# Altium footprint library SSR.PcbLib: 7 footprints
Each footprint in its own frame and in the unit in brackets; x right, y up, seen from the top. Pads: shape width x height; smd on the part's side, far side on the other; paste and mask are expansions set on the pad; w line width, h text height; cw(c..) or ccw(c..) is an arc to the next point about the centre after c.
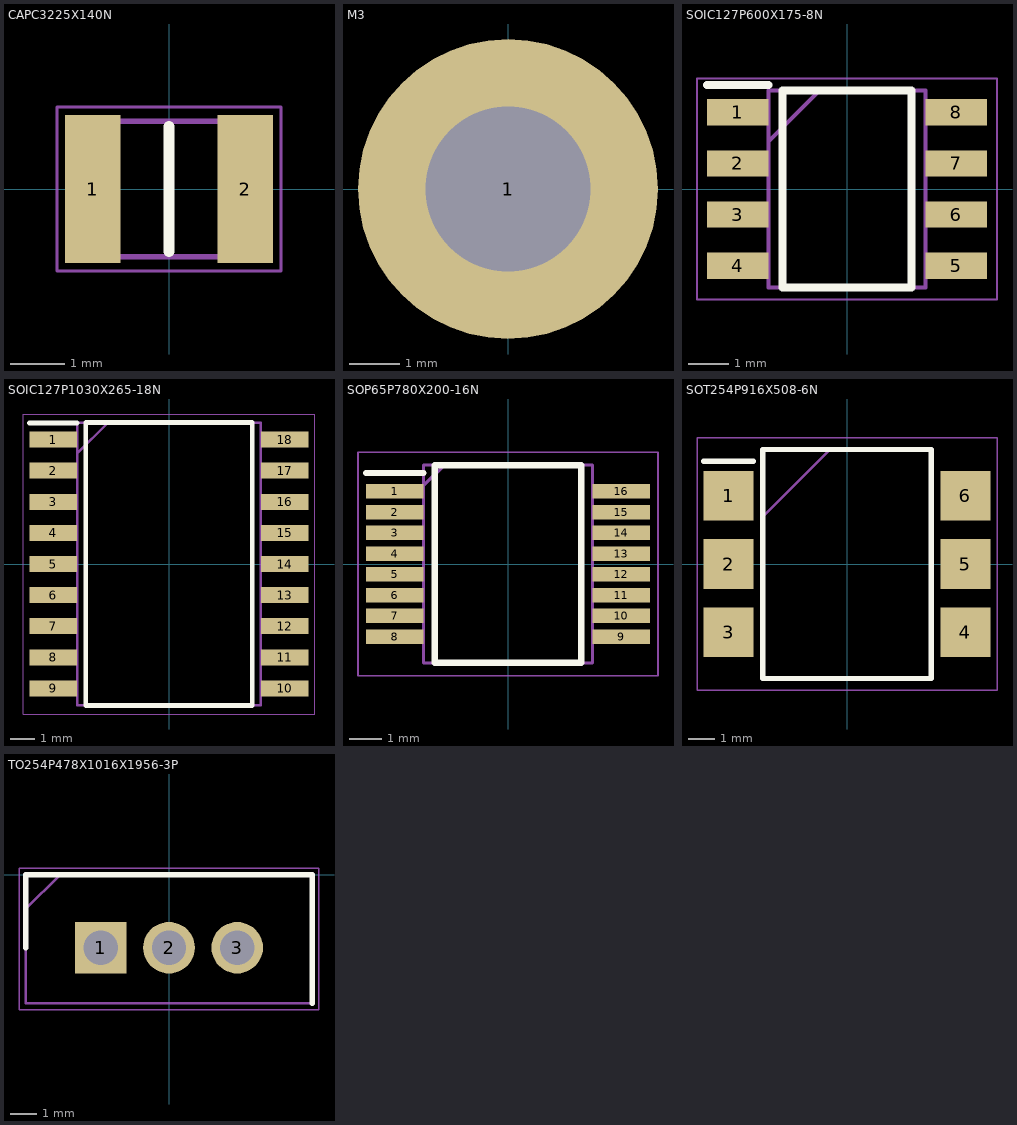
[diagram p0: the footprints below, top view; thin cyan lines are the x and y axes]

## CAPC3225X140N [mm]
pads (2):
  rect 1.02x2.72 smd: 1(-1.4,0) 2(1.4,0)
Top Overlay:
  lines w0.2: 0,-1.15 0,1.15
Mechanical 13:
  lines w0.1: -1.6,-1.25 1.6,-1.25 1.6,1.25 -1.6,1.25 -1.6,-1.25
Mechanical 15:
  lines w0.05: -2.06,-1.51 2.06,-1.51 2.06,1.51 -2.06,1.51 -2.06,-1.51
3D body "C1210C103JBTACAUTO.stp": height 1.4, standoff 0, extent -1.6,-1.25 1.6,1.25

## M3 [mm]
pads (1):
  round 6 hole 3.3 mask+2: 1(0,0)

## SOIC127P600X175-8N [mm]
pads (8):
  rect 1.525x0.65 smd: 1(-2.712,1.905) 2(-2.712,0.635) 3(-2.712,-0.635) 4(-2.712,-1.905) 5(2.712,-1.905) 6(2.712,-0.635) 7(2.712,0.635) 8(2.712,1.905)
Top Overlay:
  lines w0.2: -3.475,2.58 -1.95,2.58 ; -1.6,-2.45 -1.6,2.45 1.6,2.45 1.6,-2.45 -1.6,-2.45
Mechanical 13:
  lines w0.1: -1.95,1.18 -0.68,2.45 ; -1.95,-2.45 -1.95,2.45 1.95,2.45 1.95,-2.45 -1.95,-2.45
Mechanical 15:
  lines w0.05: -3.725,-2.75 -3.725,2.75 3.725,2.75 3.725,-2.75 -3.725,-2.75
3D body "NE555DR.stp": height 1.75, standoff 0, extent -3,-2.45 3,2.45

## SOIC127P1030X265-18N [mm]
pads (18):
  rect 1.95x0.65 smd: 1(-4.725,5.08) 2(-4.725,3.81) 3(-4.725,2.54) 4(-4.725,1.27) 5(-4.725,0) 6(-4.725,-1.27) 7(-4.725,-2.54) 8(-4.725,-3.81) 9(-4.725,-5.08) 10(4.725,-5.08) 11(4.725,-3.81) 12(4.725,-2.54) 13(4.725,-1.27) 14(4.725,0) 15(4.725,1.27) 16(4.725,2.54) 17(4.725,3.81) 18(4.725,5.08)
Top Overlay:
  lines w0.2: -5.7,5.755 -3.75,5.755 ; -3.4,-5.775 3.4,-5.775 3.4,5.775 -3.4,5.775 -3.4,-5.775
Mechanical 13:
  lines w0.1: -3.75,4.505 -2.48,5.775 ; -3.75,-5.775 3.75,-5.775 3.75,5.775 -3.75,5.775 -3.75,-5.775
Mechanical 15:
  lines w0.05: -5.95,-6.125 5.95,-6.125 5.95,6.125 -5.95,6.125 -5.95,-6.125
3D body "ULN2803ADWRG4.stp": height 2.65, standoff 0, extent -5.15,-5.775 5.15,5.775

## SOP65P780X200-16N [mm]
pads (16):
  rect 1.8x0.45 smd: 1(-3.55,2.275) 2(-3.55,1.625) 3(-3.55,0.975) 4(-3.55,0.325) 5(-3.55,-0.325) 6(-3.55,-0.975) 7(-3.55,-1.625) 8(-3.55,-2.275) 9(3.55,-2.275) 10(3.55,-1.625) 11(3.55,-0.975) 12(3.55,-0.325) 13(3.55,0.325) 14(3.55,0.975) 15(3.55,1.625) 16(3.55,2.275)
Top Overlay:
  lines w0.2: -4.45,2.85 -2.65,2.85 ; -2.3,-3.1 2.3,-3.1 2.3,3.1 -2.3,3.1 -2.3,-3.1
Mechanical 13:
  lines w0.1: -2.65,2.45 -2,3.1 ; -2.65,-3.1 2.65,-3.1 2.65,3.1 -2.65,3.1 -2.65,-3.1
Mechanical 15:
  lines w0.05: -4.7,-3.5 4.7,-3.5 4.7,3.5 -4.7,3.5 -4.7,-3.5
3D body "TCA9554ADBR.stp": height 1.9, standoff 0, extent -3.9,-3.1 3.9,3.1

## SOT254P916X508-6N [mm]
pads (6):
  rect 1.85x1.85 smd: 1(-4.4,2.54) 2(-4.4,0) 3(-4.4,-2.54) 4(4.4,-2.54) 5(4.4,0) 6(4.4,2.54)
Top Overlay:
  lines w0.2: -5.325,3.815 -3.475,3.815 ; -3.125,-4.255 3.125,-4.255 3.125,4.255 -3.125,4.255 -3.125,-4.255
Mechanical 13:
  lines w0.1: -3.175,1.715 -0.635,4.255 ; -3.175,-4.255 3.175,-4.255 3.175,4.255 -3.175,4.255 -3.175,-4.255
Mechanical 15:
  lines w0.05: -5.575,-4.695 5.575,-4.695 5.575,4.695 -5.575,4.695 -5.575,-4.695
3D body "MOC3061SR2M.stp": height 5.08, standoff 0, extent -4.583,-4.255 4.583,4.255

## TO254P478X1016X1956-3P [mm]
pads (3):
  rect 1.92x1.92 hole 1.28: 1(-2.54,-2.715)
  round 1.92 hole 1.28: 2(0,-2.715) 3(2.54,-2.715)
Top Overlay:
  lines w0.2: -5.335,-2.715 -5.335,0 5.335,0 5.335,-4.78
Mechanical 13:
  lines w0.1: -5.335,-1.27 -4.065,0 ; -5.335,-4.78 5.335,-4.78 5.335,0 -5.335,0 -5.335,-4.78
Mechanical 15:
  lines w0.05: -5.585,-5.03 5.585,-5.03 5.585,0.25 -5.585,0.25 -5.585,-5.03
3D body "Q6016LH4.stp": height 19.41, standoff -17.55, extent -5.08,-4.78 5.08,0